# EAGLE library part ALT4532-171-T001 (library trafo-tdk)
LAN TRANSFORMER 1CT:1CT 170UH
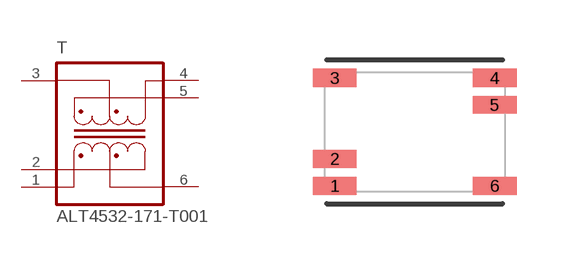
[diagram p0: symbol with the pads of ALT4532; footprint ALT4532]

Designator prefix T

## ALT4532-171-T001 (DIGIKEY: 445-8640-1-ND)  [ALT4532]
1  1  pas
2  2  pas
3  3  pas
4  4  pas
5  5  pas
6  6  pas

## Footprint ALT4532 (pad centres in mm)
Pulse Transformers/SMD Type
smd 1.1 x 0.45: 1 -2,-1.35; 2 -2,-0.675; 3 -2,1.35; 4 2,1.35; 5 2,0.675; 6 2,-1.35